# Altium footprint library LM5013QDDARQ1.PcbLib: 1 footprints
Each footprint in its own frame and in the unit in brackets; x right, y up, seen from the top. Pads: shape width x height; smd on the part's side, far side on the other; paste and mask are expansions set on the pad; w line width, h text height; cw(c..) or ccw(c..) is an arc to the next point about the centre after c.
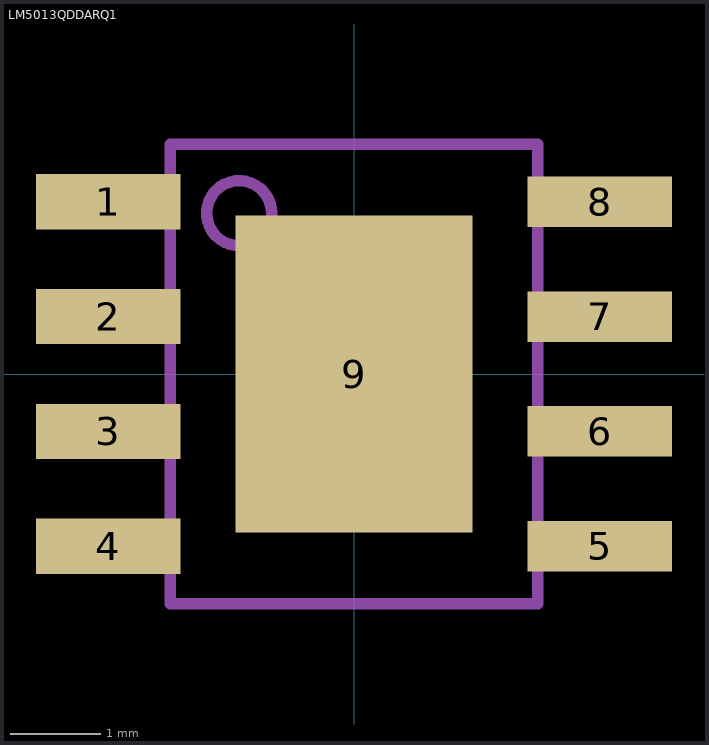
[diagram p0: the footprint, top view; thin cyan lines are the x and y axes]

## LM5013QDDARQ1 [mil]
pads (9):
  rect 63x24 smd: 1(-107,75) 2(-107,25) 3(-107,-25) 4(-107,-75)
  rect 63x22 smd: 5(107,-75) 6(107,-25) 7(107,25) 8(107,75)
  rect 103x138 smd: 9(0,0)
Mechanical 1:
  circle w5: c-50,70 r14.14
  lines w5: -80,-100 -80,-90 -80,-60 -80,-40 -80,-10 -80,10 -80,40 -80,60 -80,90 -80,100 80,100 80,90 80,60 80,40 80,10 80,-10 80,-40 80,-60 80,-90 80,-100 -80,-100
3D body "LM5013QDDARQ1.step": height 67.32, standoff 0, extent -118.11,-96.46 118.11,96.46